# EAGLE library part 64900629522 (library Wuerth_Elektronik_eiCan_Wire_to_Board_Connectors)
WR-MPC4-4.20mm Male Dual Row Angled Header,6 pins=>Code : WR-MPC4_Stiftbuchse_2reihig_abgewinkelt_64900629522 <http://katalog.we-online.de/media/thumbs2/eican/thb_WR-MPC4_Stiftbuchse_2reihig_abgewinkelt_64901029522.jpg> Details see: http://katalog.we-online.de/en/em/649_0xx_295_22 Created 2014-06-06, Karrer Zheng 2014 (C) Würth Elektronik
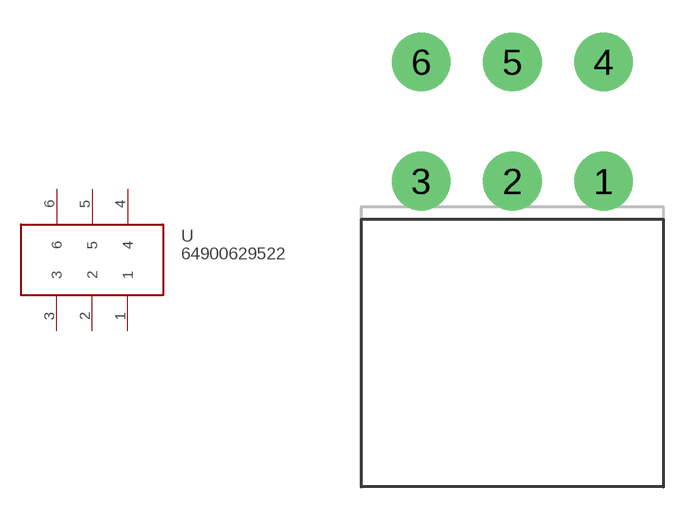
[diagram p279: symbol with the pads of 64900629522; footprint 64900629522]

Designator prefix -

## 64900629522  [64900629522]
1  1
2  2
3  3
4  4
5  5
6  6

## Footprint 64900629522 (pad centres in mm)
WR-MPC4-4.20mm Male Dual Row Angled Header,6 pins
drill 1.8: 1 2.115,-2.75; 2 -2.085,-2.75; 3 -6.285,-2.75; 4 2.115,2.75; 5 -2.085,2.75; 6 -6.285,2.75